# Altium integrated library Resistors.IntLib: 4954 symbols (part 31 of 32)
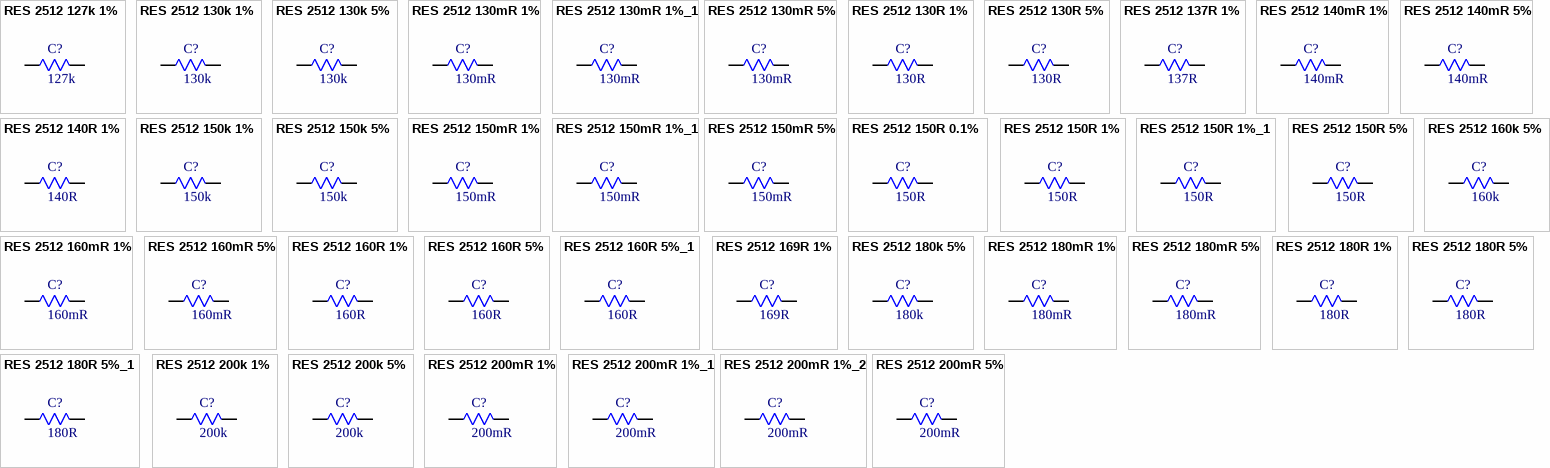
[diagram p153: symbols RES 2512 127k 1% to RES 2512 200mR 5%]

## RES 2512 160R 5%
designator C?, comment 160R
160R 1W 200V Thick Film Resistor 100ppm/â„ƒ 5% 2512 Chip Resistor - Surface Mount RoHS; Manufacturer: FOJAN; Manufacturer Part Number: FRC2512J161 TS; Supplier: LCSC; Supplier Part Number: C2907573; Resistance: 160R; Tolerance: 5%; Voltage Rating: 200V; Power: 1W
footprint RES SMD 2512
pins: 1, 2

## RES 2512 160R 5%_1
designator C?, comment 160R
2W 160R 200V Thick Film Resistor 200ppm/â„ƒ 5% 2512 Chip Resistor - Surface Mount RoHS; Manufacturer: FOJAN; Manufacturer Part Number: FRP2512J161 TS; Supplier: LCSC; Supplier Part Number: C3013387; Resistance: 160R; Tolerance: 5%; Voltage Rating: 200V; Power: 2W
footprint RES SMD 2512
pins: 1, 2

## RES 2512 169R 1%
designator C?, comment 169R
169R 1% 1W 2512 Thick Film Resistor; Manufacturer: FOJAN; Manufacturer Part Number: FRC2512F1690TS; Voltage Rating: 200V; Supplier: LCSC; Supplier Part Number: C42372196; Resistance: 169R; Tolerance: 1%; Power: 1W
footprint RES SMD 2512
pins: 1, 2

## RES 2512 180k 5%
designator C?, comment 180k
180kR 5% 1W 2512 Thick Film Resistor; Manufacturer: FOJAN; Manufacturer Part Number: FRC2512J184 TS; Voltage Rating: 200V; Supplier: LCSC; Supplier Part Number: C2960914; Resistance: 180k; Tolerance: 5%; Power: 1W
footprint RES SMD 2512
pins: 1, 2

## RES 2512 180mR 1%
designator C?, comment 180mR
180mR 1% 1W 2512 Thick Film Resistor; Manufacturer: FOJAN; Manufacturer Part Number: FRL2512FR180TS; Voltage Rating: 500V; Supplier: LCSC; Supplier Part Number: C2934365; Resistance: 180mR; Tolerance: 1%; Power: 1W
footprint RES SMD 2512
pins: 1, 2

## RES 2512 180mR 5%
designator C?, comment 180mR
180mR 5% 1W 2512 Thick Film Resistor; Manufacturer: FOJAN; Manufacturer Part Number: FRL2512JR180TS; Voltage Rating: 500V; Supplier: LCSC; Supplier Part Number: C2934372; Resistance: 180mR; Tolerance: 5%; Power: 1W
footprint RES SMD 2512
pins: 1, 2

## RES 2512 180R 1%
designator C?, comment 180R
1W 180R 200V Thick Film Resistor 100ppm/â„ƒ 1% 2512 Chip Resistor - Surface Mount RoHS; Manufacturer: FOJAN; Manufacturer Part Number: FRC2512F1800TS; Supplier: LCSC; Supplier Part Number: C5121563; Resistance: 180R; Tolerance: 1%; Voltage Rating: 200V; Power: 1W
footprint RES SMD 2512
pins: 1, 2

## RES 2512 180R 5%
designator C?, comment 180R
1W 180R 200V Thick Film Resistor 100ppm/â„ƒ 5% 2512 Chip Resistor - Surface Mount RoHS; Manufacturer: FOJAN; Manufacturer Part Number: FRC2512J181 TS; Supplier: LCSC; Supplier Part Number: C2934094; Resistance: 180R; Tolerance: 5%; Voltage Rating: 200V; Power: 1W
footprint RES SMD 2512
pins: 1, 2

## RES 2512 180R 5%_1
designator C?, comment 180R
2W 180R 200V Thick Film Resistor 200ppm/â„ƒ 5% 2512 Chip Resistor - Surface Mount RoHS; Manufacturer: FOJAN; Manufacturer Part Number: FRP2512J181 TS; Supplier: LCSC; Supplier Part Number: C5204055; Resistance: 180R; Tolerance: 5%; Voltage Rating: 200V; Power: 2W
footprint RES SMD 2512
pins: 1, 2

## RES 2512 200k 1%
designator C?, comment 200k
200kR 1% 1W 2512 Thick Film Resistor; Manufacturer: FOJAN; Manufacturer Part Number: FRC2512F2003TS; Voltage Rating: 200V; Supplier: LCSC; Supplier Part Number: C2934059; Resistance: 200k; Tolerance: 1%; Power: 1W
footprint RES SMD 2512
pins: 1, 2

## RES 2512 200k 5%
designator C?, comment 200k
200kR 5% 1W 2512 Thick Film Resistor; Manufacturer: FOJAN; Manufacturer Part Number: FRC2512J204 TS; Voltage Rating: 200V; Supplier: LCSC; Supplier Part Number: C2934097; Resistance: 200k; Tolerance: 5%; Power: 1W
footprint RES SMD 2512
pins: 1, 2

## RES 2512 200mR 1%
designator C?, comment 200mR
200mR 2W Thick Film Resistor 600ppm/â„ƒ 1% 2512 Chip Resistor - Surface Mount RoHS; Manufacturer: FOJAN; Manufacturer Part Number: FPL2512FR200TS; Supplier: LCSC; Supplier Part Number: C18164315; Resistance: 200mR; Tolerance: 1%; Power: 2W
footprint RES SMD 2512
pins: 1, 2

## RES 2512 200mR 1%_1
designator C?, comment 200mR
200mR 1% 1W 2512 Thick Film Resistor; Manufacturer: FOJAN; Manufacturer Part Number: FRL2512FR200TS; Voltage Rating: 500V; Supplier: LCSC; Supplier Part Number: C2934366; Resistance: 200mR; Tolerance: 1%; Power: 1W
footprint RES SMD 2512
pins: 1, 2

## RES 2512 200mR 1%_2
designator C?, comment 200mR
200mR 1% 3W; Manufacturer: FOJAN; Manufacturer Part Number: FPM253WFR200TN; Supplier: LCSC; Supplier Part Number: C46635900; Resistance: 200mR; Tolerance: 1%; Power: 3W
footprint RES SMD 2512
pins: 1, 2

## RES 2512 200mR 5%
designator C?, comment 200mR
200mR 5% 1W 2512 Thick Film Resistor; Manufacturer: FOJAN; Manufacturer Part Number: FRL2512JR200TS; Voltage Rating: 500V; Supplier: LCSC; Supplier Part Number: C2934373; Resistance: 200mR; Tolerance: 5%; Power: 1W
footprint RES SMD 2512
pins: 1, 2

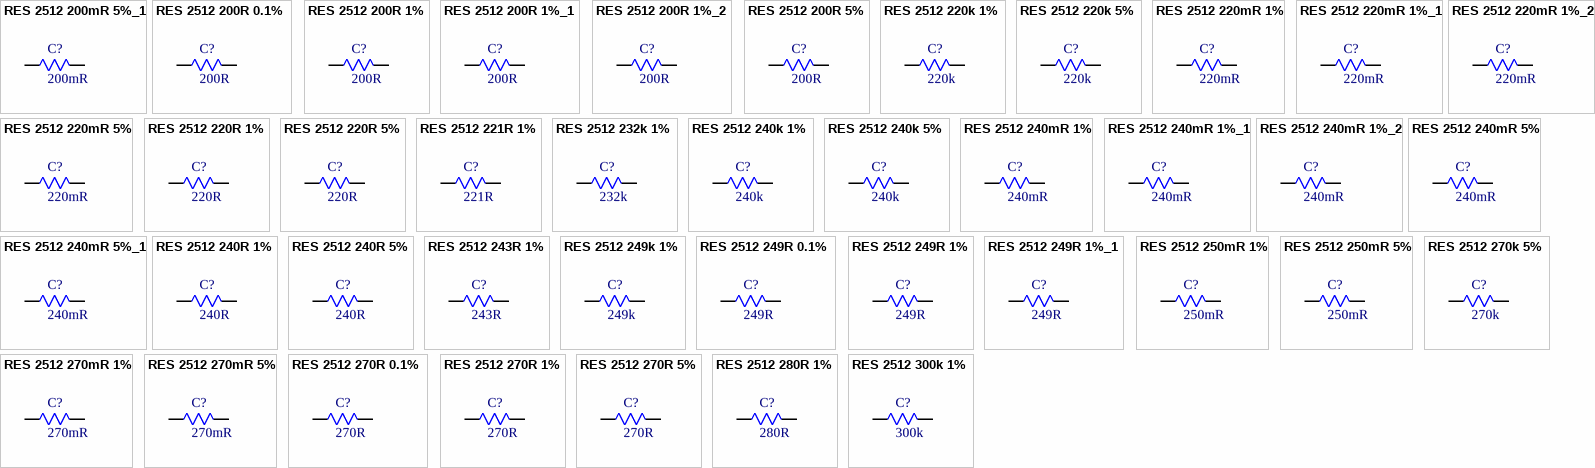
[diagram p120: symbols RES 2512 200mR 5%_1 to RES 2512 300k 1%]

## RES 2512 200mR 5%_1
designator C?, comment 200mR
200mR 2W Thick Film Resistor 5% 600ppm/â„ƒ 2512 Chip Resistor - Surface Mount RoHS; Manufacturer: FOJAN; Manufacturer Part Number: FPL2512JR200TS; Supplier: LCSC; Supplier Part Number: C51048339; Resistance: 200mR; Tolerance: 5%; Power: 2W
footprint RES SMD 2512
pins: 1, 2

## RES 2512 200R 0.1%
designator C?, comment 200R
1W 200R 200V Thick Film Resistor 100ppm/â„ƒ 0.1% 2512 Chip Resistor - Surface Mount RoHS; Manufacturer: FOJAN; Manufacturer Part Number: FRH2512B2000TS; Supplier: LCSC; Supplier Part Number: C49196683; Resistance: 200R; Tolerance: 0.1%; Voltage Rating: 200V; Power: 1W
footprint RES SMD 2512
pins: 1, 2

## RES 2512 200R 1%
designator C?, comment 200R
1W 200R 200V Thick Film Resistor 100ppm/â„ƒ 1% 2512 Chip Resistor - Surface Mount RoHS; Manufacturer: FOJAN; Manufacturer Part Number: FRC2512F2000TS; Supplier: LCSC; Supplier Part Number: C2934056; Resistance: 200R; Tolerance: 1%; Voltage Rating: 200V; Power: 1W
footprint RES SMD 2512
pins: 1, 2

## RES 2512 200R 1%_1
designator C?, comment 200R
2W 200R 200V Thick Film Resistor 100ppm/â„ƒ 1% 2512 Chip Resistor - Surface Mount RoHS; Manufacturer: FOJAN; Manufacturer Part Number: FPS2512F2000TS; Supplier: LCSC; Supplier Part Number: C49010124; Resistance: 200R; Tolerance: 1%; Voltage Rating: 200V; Power: 2W
footprint RES SMD 2512
pins: 1, 2

## RES 2512 200R 1%_2
designator C?, comment 200R
2W 200R Thick Film Resistor 200ppm/â„ƒ 1% 2512 Chip Resistor - Surface Mount RoHS; Manufacturer: FOJAN; Manufacturer Part Number: FRP2512F2000TS; Supplier: LCSC; Supplier Part Number: C7468341; Resistance: 200R; Tolerance: 1%; Power: 2W
footprint RES SMD 2512
pins: 1, 2

## RES 2512 200R 5%
designator C?, comment 200R
1W 200R 200V Thick Film Resistor 100ppm/â„ƒ 5% 2512 Chip Resistor - Surface Mount RoHS; Manufacturer: FOJAN; Manufacturer Part Number: FRC2512J201 TS; Supplier: LCSC; Supplier Part Number: C2907575; Resistance: 200R; Tolerance: 5%; Voltage Rating: 200V; Power: 1W
footprint RES SMD 2512
pins: 1, 2

## RES 2512 220k 1%
designator C?, comment 220k
220kR 1% 1W 2512 Thick Film Resistor; Manufacturer: FOJAN; Manufacturer Part Number: FRC2512F2203TS; Voltage Rating: 200V; Supplier: LCSC; Supplier Part Number: C2934061; Resistance: 220k; Tolerance: 1%; Power: 1W
footprint RES SMD 2512
pins: 1, 2

## RES 2512 220k 5%
designator C?, comment 220k
220kR 5% 1W 2512 Thick Film Resistor; Manufacturer: FOJAN; Manufacturer Part Number: FRC2512J224 TS; Voltage Rating: 200V; Supplier: LCSC; Supplier Part Number: C2974114; Resistance: 220k; Tolerance: 5%; Power: 1W
footprint RES SMD 2512
pins: 1, 2

## RES 2512 220mR 1%
designator C?, comment 220mR
220mR 1% 1W 2512 Thick Film Resistor; Manufacturer: FOJAN; Manufacturer Part Number: FRL2512FR220TS; Voltage Rating: 500V; Supplier: LCSC; Supplier Part Number: C2960770; Resistance: 220mR; Tolerance: 1%; Power: 1W
footprint RES SMD 2512
pins: 1, 2

## RES 2512 220mR 1%_1
designator C?, comment 220mR
220mR 2W Thick Film Resistor 300ppm/â„ƒ 1% 2512 Chip Resistor - Surface Mount RoHS; Manufacturer: FOJAN; Manufacturer Part Number: FPL2512FR220TS; Supplier: LCSC; Supplier Part Number: C7467846; Resistance: 220mR; Tolerance: 1%; Power: 2W
footprint RES SMD 2512
pins: 1, 2

## RES 2512 220mR 1%_2
designator C?, comment 220mR
220mR 1% 2W; Manufacturer: FOJAN; Manufacturer Part Number: FRM252WFR220TK; Supplier: LCSC; Supplier Part Number: C46635908; Resistance: 220mR; Tolerance: 1%; Power: 2W
footprint RES SMD 2512
pins: 1, 2

## RES 2512 220mR 5%
designator C?, comment 220mR
220mR 5% 1W 2512 Thick Film Resistor; Manufacturer: FOJAN; Manufacturer Part Number: FRL2512JR220TS; Voltage Rating: 500V; Supplier: LCSC; Supplier Part Number: C2934374; Resistance: 220mR; Tolerance: 5%; Power: 1W
footprint RES SMD 2512
pins: 1, 2

## RES 2512 220R 1%
designator C?, comment 220R
1W 220R 200V Thick Film Resistor 100ppm/â„ƒ 1% 2512 Chip Resistor - Surface Mount RoHS; Manufacturer: FOJAN; Manufacturer Part Number: FRC2512F2200TS; Supplier: LCSC; Supplier Part Number: C2934060; Resistance: 220R; Tolerance: 1%; Voltage Rating: 200V; Power: 1W
footprint RES SMD 2512
pins: 1, 2

## RES 2512 220R 5%
designator C?, comment 220R
1W 220R 200V Thick Film Resistor 100ppm/â„ƒ 5% 2512 Chip Resistor - Surface Mount RoHS; Manufacturer: FOJAN; Manufacturer Part Number: FRC2512J221TS; Supplier: LCSC; Supplier Part Number: C2930459; Resistance: 220R; Tolerance: 5%; Voltage Rating: 200V; Power: 1W
footprint RES SMD 2512
pins: 1, 2

## RES 2512 221R 1%
designator C?, comment 221R
1W 221R 200V Thick Film Resistor 1% 2512 Chip Resistor - Surface Mount RoHS; Manufacturer: FOJAN; Manufacturer Part Number: FRC2512F2210TS; Supplier: LCSC; Supplier Part Number: C51048216; Resistance: 221R; Tolerance: 1%; Voltage Rating: 200V; Power: 1W
footprint RES SMD 2512
pins: 1, 2

## RES 2512 232k 1%
designator C?, comment 232k
1W 232kR 200V Thick Film Resistor 1% 2512 Chip Resistor - Surface Mount RoHS; Manufacturer: FOJAN; Manufacturer Part Number: FRC2512F2323TS; Supplier: LCSC; Supplier Part Number: C51048337; Resistance: 232k; Tolerance: 1%; Voltage Rating: 200V; Power: 1W
footprint RES SMD 2512
pins: 1, 2

## RES 2512 240k 1%
designator C?, comment 240k
240kR 1% 1W 2512 Thick Film Resistor; Manufacturer: FOJAN; Manufacturer Part Number: FRC2512F2403TS; Voltage Rating: 200V; Supplier: LCSC; Supplier Part Number: C5121565; Resistance: 240k; Tolerance: 1%; Power: 1W
footprint RES SMD 2512
pins: 1, 2

## RES 2512 240k 5%
designator C?, comment 240k
240kR 5% 1W 2512 Thick Film Resistor; Manufacturer: FOJAN; Manufacturer Part Number: FRC2512J244 TS; Voltage Rating: 200V; Supplier: LCSC; Supplier Part Number: C2934104; Resistance: 240k; Tolerance: 5%; Power: 1W
footprint RES SMD 2512
pins: 1, 2

## RES 2512 240mR 1%
designator C?, comment 240mR
240mR 1% 2W 2512 Thick Film Resistor; Manufacturer: FOJAN; Manufacturer Part Number: FPL2512FR240TS; Supplier: LCSC; Supplier Part Number: C7468699; Resistance: 240mR; Tolerance: 1%; Power: 2W
footprint RES SMD 2512
pins: 1, 2

## RES 2512 240mR 1%_1
designator C?, comment 240mR
240mR 1% 1W 2512 Thick Film Resistor; Manufacturer: FOJAN; Manufacturer Part Number: FRL2512FR240TS; Voltage Rating: 500V; Supplier: LCSC; Supplier Part Number: C2934367; Resistance: 240mR; Tolerance: 1%; Power: 1W
footprint RES SMD 2512
pins: 1, 2

## RES 2512 240mR 1%_2
designator C?, comment 240mR
240mR 1% 2W 2512 Thick Film Resistor; Manufacturer: FOJAN; Manufacturer Part Number: FRP2512FR240TS; Voltage Rating: 200V; Supplier: LCSC; Supplier Part Number: C3013384; Resistance: 240mR; Tolerance: 1%; Power: 2W
footprint RES SMD 2512
pins: 1, 2

## RES 2512 240mR 5%
designator C?, comment 240mR
240mR 5% 1W 2512 Thick Film Resistor; Manufacturer: FOJAN; Manufacturer Part Number: FRL2512JR240TS; Voltage Rating: 500V; Supplier: LCSC; Supplier Part Number: C2960776; Resistance: 240mR; Tolerance: 5%; Power: 1W
footprint RES SMD 2512
pins: 1, 2

## RES 2512 240mR 5%_1
designator C?, comment 240mR
2W 240mR Current Sense Resistor 5% 50ppm/â„ƒ 2512 Chip Resistor - Surface Mount RoHS; Manufacturer: FOJAN; Manufacturer Part Number: FRM252WJR240TK; Supplier: LCSC; Supplier Part Number: C7467235; Resistance: 240mR; Tolerance: 5%; Power: 2W
footprint RES SMD 2512
pins: 1, 2

## RES 2512 240R 1%
designator C?, comment 240R
1W 240R 200V Thick Film Resistor 100ppm/â„ƒ 1% 2512 Chip Resistor - Surface Mount RoHS; Manufacturer: FOJAN; Manufacturer Part Number: FRC2512F2400TS; Supplier: LCSC; Supplier Part Number: C3013320; Resistance: 240R; Tolerance: 1%; Voltage Rating: 200V; Power: 1W
footprint RES SMD 2512
pins: 1, 2

## RES 2512 240R 5%
designator C?, comment 240R
240R 1W 200V Thick Film Resistor 100ppm/â„ƒ 5% 2512 Chip Resistor - Surface Mount RoHS; Manufacturer: FOJAN; Manufacturer Part Number: FRC2512J241 TS; Supplier: LCSC; Supplier Part Number: C2934101; Resistance: 240R; Tolerance: 5%; Voltage Rating: 200V; Power: 1W
footprint RES SMD 2512
pins: 1, 2

## RES 2512 243R 1%
designator C?, comment 243R
1W 243R 200V Thick Film Resistor 100ppm/â„ƒ 1% 2512 Chip Resistor - Surface Mount RoHS; Manufacturer: FOJAN; Manufacturer Part Number: FRC2512F2430TS; Supplier: LCSC; Supplier Part Number: C3000770; Resistance: 243R; Tolerance: 1%; Voltage Rating: 200V; Power: 1W
footprint RES SMD 2512
pins: 1, 2

## RES 2512 249k 1%
designator C?, comment 249k
249kR 1W 200V Thick Film Resistor 100ppm/â„ƒ 1% 2512 Chip Resistor - Surface Mount RoHS; Manufacturer: FOJAN; Manufacturer Part Number: FRC2512F2493TS; Supplier: LCSC; Supplier Part Number: C48533772; Resistance: 249k; Tolerance: 1%; Voltage Rating: 200V; Power: 1W
footprint RES SMD 2512
pins: 1, 2

## RES 2512 249R 0.1%
designator C?, comment 249R
1W 249R 200V Thick Film Resistor 100ppm/â„ƒ 0.1% 2512 Chip Resistor - Surface Mount RoHS; Manufacturer: FOJAN; Manufacturer Part Number: FRH2512B2490TS; Supplier: LCSC; Supplier Part Number: C49196919; Resistance: 249R; Tolerance: 0.1%; Voltage Rating: 200V; Power: 1W
footprint RES SMD 2512
pins: 1, 2

## RES 2512 249R 1%
designator C?, comment 249R
1W 249R 200V Thick Film Resistor 100ppm/â„ƒ 1% 2512 Chip Resistor - Surface Mount RoHS; Manufacturer: FOJAN; Manufacturer Part Number: FRC2512F2490TS; Supplier: LCSC; Supplier Part Number: C5126067; Resistance: 249R; Tolerance: 1%; Voltage Rating: 200V; Power: 1W
footprint RES SMD 2512
pins: 1, 2

## RES 2512 249R 1%_1
designator C?, comment 249R
249R 2W Thick Film Resistor 200ppm/â„ƒ 1% 2512 Chip Resistor - Surface Mount RoHS; Manufacturer: FOJAN; Manufacturer Part Number: FRP2512F2490TS; Supplier: LCSC; Supplier Part Number: C7468330; Resistance: 249R; Tolerance: 1%; Power: 2W
footprint RES SMD 2512
pins: 1, 2

## RES 2512 250mR 1%
designator C?, comment 250mR
250mR 1% 1W 2512 Thick Film Resistor; Manufacturer: FOJAN; Manufacturer Part Number: FRL2512FR250TS; Voltage Rating: 500V; Supplier: LCSC; Supplier Part Number: C3000774; Resistance: 250mR; Tolerance: 1%; Power: 1W
footprint RES SMD 2512
pins: 1, 2

## RES 2512 250mR 5%
designator C?, comment 250mR
250mR 5% 1W 2512 Thick Film Resistor; Manufacturer: FOJAN; Manufacturer Part Number: FRL2512JR250TS; Voltage Rating: 500V; Supplier: LCSC; Supplier Part Number: C2934375; Resistance: 250mR; Tolerance: 5%; Power: 1W
footprint RES SMD 2512
pins: 1, 2

## RES 2512 270k 5%
designator C?, comment 270k
270kR 5% 1W 2512 Thick Film Resistor; Manufacturer: FOJAN; Manufacturer Part Number: FRC2512J274 TS; Voltage Rating: 200V; Supplier: LCSC; Supplier Part Number: C2960831; Resistance: 270k; Tolerance: 5%; Power: 1W
footprint RES SMD 2512
pins: 1, 2

## RES 2512 270mR 1%
designator C?, comment 270mR
270mR 1% 1W 2512 Thick Film Resistor; Manufacturer: FOJAN; Manufacturer Part Number: FRL2512FR270TS; Voltage Rating: 500V; Supplier: LCSC; Supplier Part Number: C2960711; Resistance: 270mR; Tolerance: 1%; Power: 1W
footprint RES SMD 2512
pins: 1, 2

## RES 2512 270mR 5%
designator C?, comment 270mR
270mR 5% 1W 2512 Thick Film Resistor; Manufacturer: FOJAN; Manufacturer Part Number: FRL2512JR270TS; Voltage Rating: 500V; Supplier: LCSC; Supplier Part Number: C2934376; Resistance: 270mR; Tolerance: 5%; Power: 1W
footprint RES SMD 2512
pins: 1, 2

## RES 2512 270R 0.1%
designator C?, comment 270R
1W 270R 200V Thick Film Resistor 100ppm/â„ƒ 0.1% 2512 Chip Resistor - Surface Mount RoHS; Manufacturer: FOJAN; Manufacturer Part Number: FRH2512B2700TS; Supplier: LCSC; Supplier Part Number: C49196928; Resistance: 270R; Tolerance: 0.1%; Voltage Rating: 200V; Power: 1W
footprint RES SMD 2512
pins: 1, 2

## RES 2512 270R 1%
designator C?, comment 270R
1W 270R 200V Thick Film Resistor 100ppm/â„ƒ 1% 2512 Chip Resistor - Surface Mount RoHS; Manufacturer: FOJAN; Manufacturer Part Number: FRC2512F2700TS; Supplier: LCSC; Supplier Part Number: C2974110; Resistance: 270R; Tolerance: 1%; Voltage Rating: 200V; Power: 1W
footprint RES SMD 2512
pins: 1, 2

## RES 2512 270R 5%
designator C?, comment 270R
1W 270R 200V Thick Film Resistor 100ppm/â„ƒ 5% 2512 Chip Resistor - Surface Mount RoHS; Manufacturer: FOJAN; Manufacturer Part Number: FRC2512J271TS; Supplier: LCSC; Supplier Part Number: C3000712; Resistance: 270R; Tolerance: 5%; Voltage Rating: 200V; Power: 1W
footprint RES SMD 2512
pins: 1, 2

## RES 2512 280R 1%
designator C?, comment 280R
280R 1W 200V Thick Film Resistor 100ppm/â„ƒ 1% 2512 Chip Resistor - Surface Mount RoHS; Manufacturer: FOJAN; Manufacturer Part Number: FRC2512F2800TS; Supplier: LCSC; Supplier Part Number: C48533766; Resistance: 280R; Tolerance: 1%; Voltage Rating: 200V; Power: 1W
footprint RES SMD 2512
pins: 1, 2

## RES 2512 300k 1%
designator C?, comment 300k
300kR 1% 1W 2512 Thick Film Resistor; Manufacturer: FOJAN; Manufacturer Part Number: FRC2512F3003TS; Voltage Rating: 200V; Supplier: LCSC; Supplier Part Number: C2960835; Resistance: 300k; Tolerance: 1%; Power: 1W
footprint RES SMD 2512
pins: 1, 2

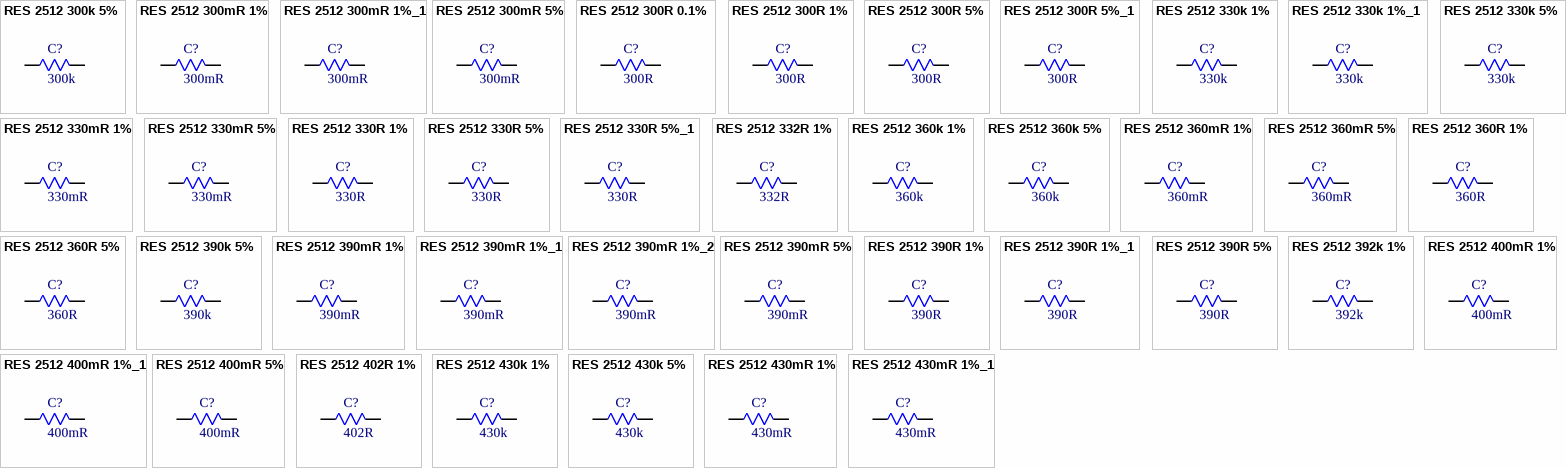
[diagram p121: symbols RES 2512 300k 5% to RES 2512 430mR 1%_1]

## RES 2512 300k 5%
designator C?, comment 300k
300kR 5% 1W 2512 Thick Film Resistor; Manufacturer: FOJAN; Manufacturer Part Number: FRC2512J304 TS; Voltage Rating: 200V; Supplier: LCSC; Supplier Part Number: C3013331; Resistance: 300k; Tolerance: 5%; Power: 1W
footprint RES SMD 2512
pins: 1, 2

## RES 2512 300mR 1%
designator C?, comment 300mR
300mR 1% 2W 2512 Thick Film Resistor; Manufacturer: FOJAN; Manufacturer Part Number: FPL2512FR300TS; Supplier: LCSC; Supplier Part Number: C46635950; Resistance: 300mR; Tolerance: 1%; Power: 2W
footprint RES SMD 2512
pins: 1, 2

## RES 2512 300mR 1%_1
designator C?, comment 300mR
1W 300mR Thick Film Resistor 300ppm/â„ƒ 1% 2512 Chip Resistor - Surface Mount RoHS; Manufacturer: FOJAN; Manufacturer Part Number: FRL2512FR300TS; Supplier: LCSC; Supplier Part Number: C7467410; Resistance: 300mR; Tolerance: 1%; Power: 1W
footprint RES SMD 2512
pins: 1, 2

## RES 2512 300mR 5%
designator C?, comment 300mR
300mR 5% 1W 2512 Thick Film Resistor; Manufacturer: FOJAN; Manufacturer Part Number: FRL2512JR300TS; Voltage Rating: 500V; Supplier: LCSC; Supplier Part Number: C2934377; Resistance: 300mR; Tolerance: 5%; Power: 1W
footprint RES SMD 2512
pins: 1, 2

## RES 2512 300R 0.1%
designator C?, comment 300R
1W 300R 200V Thick Film Resistor 100ppm/â„ƒ 0.1% 2512 Chip Resistor - Surface Mount RoHS; Manufacturer: FOJAN; Manufacturer Part Number: FRH2512B3000TS; Supplier: LCSC; Supplier Part Number: C49196929; Resistance: 300R; Tolerance: 0.1%; Voltage Rating: 200V; Power: 1W
footprint RES SMD 2512
pins: 1, 2

## RES 2512 300R 1%
designator C?, comment 300R
300R 1W 200V Thick Film Resistor 100ppm/â„ƒ 1% 2512 Chip Resistor - Surface Mount RoHS; Manufacturer: FOJAN; Manufacturer Part Number: FRC2512F3000TS; Supplier: LCSC; Supplier Part Number: C2934067; Resistance: 300R; Tolerance: 1%; Voltage Rating: 200V; Power: 1W
footprint RES SMD 2512
pins: 1, 2

## RES 2512 300R 5%
designator C?, comment 300R
300R 2W Thick Film Resistor 200ppm/â„ƒ 5% 2512 Chip Resistor - Surface Mount RoHS; Manufacturer: FOJAN; Manufacturer Part Number: FRP2512J301 TS; Supplier: LCSC; Supplier Part Number: C7468124; Resistance: 300R; Tolerance: 5%; Power: 2W
footprint RES SMD 2512
pins: 1, 2

## RES 2512 300R 5%_1
designator C?, comment 300R
300R 1W 200V Thick Film Resistor 100ppm/â„ƒ 5% 2512 Chip Resistor - Surface Mount RoHS; Manufacturer: FOJAN; Manufacturer Part Number: FRC2512J301 TS; Supplier: LCSC; Supplier Part Number: C2934108; Resistance: 300R; Tolerance: 5%; Voltage Rating: 200V; Power: 1W
footprint RES SMD 2512
pins: 1, 2

## RES 2512 330k 1%
designator C?, comment 330k
1W 330kR 500V Thick Film Resistor 1% 200ppm/â„ƒ 2512 Chip Resistor - Surface Mount RoHS; Manufacturer: FOJAN; Manufacturer Part Number: FRV2512F3303TS; Supplier: LCSC; Supplier Part Number: C48533762; Resistance: 330k; Tolerance: 1%; Voltage Rating: 500V; Power: 1W
footprint RES SMD 2512
pins: 1, 2

## RES 2512 330k 1%_1
designator C?, comment 330k
330kR 1% 1W 2512 Thick Film Resistor; Manufacturer: FOJAN; Manufacturer Part Number: FRC2512F3303TS; Voltage Rating: 200V; Supplier: LCSC; Supplier Part Number: C5713378; Resistance: 330k; Tolerance: 1%; Power: 1W
footprint RES SMD 2512
pins: 1, 2

## RES 2512 330k 5%
designator C?, comment 330k
330kR 5% 1W 2512 Thick Film Resistor; Manufacturer: FOJAN; Manufacturer Part Number: FRC2512J334 TS; Voltage Rating: 200V; Supplier: LCSC; Supplier Part Number: C2934111; Resistance: 330k; Tolerance: 5%; Power: 1W
footprint RES SMD 2512
pins: 1, 2

## RES 2512 330mR 1%
designator C?, comment 330mR
330mR 1% 1W 2512 Thick Film Resistor; Manufacturer: FOJAN; Manufacturer Part Number: FRL2512FR330TS; Voltage Rating: 500V; Supplier: LCSC; Supplier Part Number: C2960712; Resistance: 330mR; Tolerance: 1%; Power: 1W
footprint RES SMD 2512
pins: 1, 2

## RES 2512 330mR 5%
designator C?, comment 330mR
330mR 5% 1W 2512 Thick Film Resistor; Manufacturer: FOJAN; Manufacturer Part Number: FRL2512JR330TS; Voltage Rating: 500V; Supplier: LCSC; Supplier Part Number: C2934378; Resistance: 330mR; Tolerance: 5%; Power: 1W
footprint RES SMD 2512
pins: 1, 2

## RES 2512 330R 1%
designator C?, comment 330R
1W 330R 200V Thick Film Resistor 100ppm/â„ƒ 1% 2512 Chip Resistor - Surface Mount RoHS; Manufacturer: FOJAN; Manufacturer Part Number: FRC2512F3300TS; Supplier: LCSC; Supplier Part Number: C2934068; Resistance: 330R; Tolerance: 1%; Voltage Rating: 200V; Power: 1W
footprint RES SMD 2512
pins: 1, 2

## RES 2512 330R 5%
designator C?, comment 330R
2W 330R 200V Thick Film Resistor 200ppm/â„ƒ 5% 2512 Chip Resistor - Surface Mount RoHS; Manufacturer: FOJAN; Manufacturer Part Number: FRP2512J331TS; Supplier: LCSC; Supplier Part Number: C3000660; Resistance: 330R; Tolerance: 5%; Voltage Rating: 200V; Power: 2W
footprint RES SMD 2512
pins: 1, 2

## RES 2512 330R 5%_1
designator C?, comment 330R
1W 330R 200V Thick Film Resistor 100ppm/â„ƒ 5% 2512 Chip Resistor - Surface Mount RoHS; Manufacturer: FOJAN; Manufacturer Part Number: FRC2512J331 TS; Supplier: LCSC; Supplier Part Number: C2960718; Resistance: 330R; Tolerance: 5%; Voltage Rating: 200V; Power: 1W
footprint RES SMD 2512
pins: 1, 2

## RES 2512 332R 1%
designator C?, comment 332R
1W 332R 200V Thick Film Resistor 1% 2512 Chip Resistor - Surface Mount RoHS; Manufacturer: FOJAN; Manufacturer Part Number: FRC2512F3320TS; Supplier: LCSC; Supplier Part Number: C51048312; Resistance: 332R; Tolerance: 1%; Voltage Rating: 200V; Power: 1W
footprint RES SMD 2512
pins: 1, 2

## RES 2512 360k 1%
designator C?, comment 360k
1W 360kR 200V Thick Film Resistor 1% 2512 Chip Resistor - Surface Mount RoHS; Manufacturer: FOJAN; Manufacturer Part Number: FRC2512F3603TS; Supplier: LCSC; Supplier Part Number: C51048311; Resistance: 360k; Tolerance: 1%; Voltage Rating: 200V; Power: 1W
footprint RES SMD 2512
pins: 1, 2

## RES 2512 360k 5%
designator C?, comment 360k
360kR 5% 1W 2512 Thick Film Resistor; Manufacturer: FOJAN; Manufacturer Part Number: FRC2512J364 TS; Voltage Rating: 200V; Supplier: LCSC; Supplier Part Number: C5713381; Resistance: 360k; Tolerance: 5%; Power: 1W
footprint RES SMD 2512
pins: 1, 2

## RES 2512 360mR 1%
designator C?, comment 360mR
1W 360mR Thick Film Resistor 300ppm/â„ƒ 1% 2512 Chip Resistor - Surface Mount RoHS; Manufacturer: FOJAN; Manufacturer Part Number: FRL2512FR360TS; Supplier: LCSC; Supplier Part Number: C7467804; Resistance: 360mR; Tolerance: 1%; Power: 1W
footprint RES SMD 2512
pins: 1, 2

## RES 2512 360mR 5%
designator C?, comment 360mR
360mR 5% 1W 2512 Thick Film Resistor; Manufacturer: FOJAN; Manufacturer Part Number: FRL2512JR360TS; Voltage Rating: 500V; Supplier: LCSC; Supplier Part Number: C2934379; Resistance: 360mR; Tolerance: 5%; Power: 1W
footprint RES SMD 2512
pins: 1, 2

## RES 2512 360R 1%
designator C?, comment 360R
1W 360R 200V Thick Film Resistor 1% 2512 Chip Resistor - Surface Mount RoHS; Manufacturer: FOJAN; Manufacturer Part Number: FRC2512F3600TS; Supplier: LCSC; Supplier Part Number: C51048357; Resistance: 360R; Tolerance: 1%; Voltage Rating: 200V; Power: 1W
footprint RES SMD 2512
pins: 1, 2

## RES 2512 360R 5%
designator C?, comment 360R
1W 360R 200V Thick Film Resistor 100ppm/â„ƒ 5% 2512 Chip Resistor - Surface Mount RoHS; Manufacturer: FOJAN; Manufacturer Part Number: FRC2512J361 TS; Supplier: LCSC; Supplier Part Number: C2960920; Resistance: 360R; Tolerance: 5%; Voltage Rating: 200V; Power: 1W
footprint RES SMD 2512
pins: 1, 2

## RES 2512 390k 5%
designator C?, comment 390k
390kR 5% 1W 2512 Thick Film Resistor; Manufacturer: FOJAN; Manufacturer Part Number: FRC2512J394 TS; Voltage Rating: 200V; Supplier: LCSC; Supplier Part Number: C5357170; Resistance: 390k; Tolerance: 5%; Power: 1W
footprint RES SMD 2512
pins: 1, 2

## RES 2512 390mR 1%
designator C?, comment 390mR
390mR 1% 2W 2512 Thick Film Resistor; Manufacturer: FOJAN; Manufacturer Part Number: FPL2512FR390TS; Supplier: LCSC; Supplier Part Number: C42372086; Resistance: 390mR; Tolerance: 1%; Power: 2W
footprint RES SMD 2512
pins: 1, 2

## RES 2512 390mR 1%_1
designator C?, comment 390mR
390mR 1% 1W 2512 Thick Film Resistor; Manufacturer: FOJAN; Manufacturer Part Number: FRL2512FR390TS; Voltage Rating: 500V; Supplier: LCSC; Supplier Part Number: C2960754; Resistance: 390mR; Tolerance: 1%; Power: 1W
footprint RES SMD 2512
pins: 1, 2

## RES 2512 390mR 1%_2
designator C?, comment 390mR
390mR 1% 3W; Manufacturer: FOJAN; Manufacturer Part Number: FPM253WFR390TN; Supplier: LCSC; Supplier Part Number: C46635913; Resistance: 390mR; Tolerance: 1%; Power: 3W
footprint RES SMD 2512
pins: 1, 2

## RES 2512 390mR 5%
designator C?, comment 390mR
390mR 5% 1W 2512 Thick Film Resistor; Manufacturer: FOJAN; Manufacturer Part Number: FRL2512JR390TS; Voltage Rating: 500V; Supplier: LCSC; Supplier Part Number: C2934380; Resistance: 390mR; Tolerance: 5%; Power: 1W
footprint RES SMD 2512
pins: 1, 2

## RES 2512 390R 1%
designator C?, comment 390R
2W 390R 200V Thick Film Resistor 200ppm/â„ƒ 1% 2512 Chip Resistor - Surface Mount RoHS; Manufacturer: FOJAN; Manufacturer Part Number: FRP2512F3900TS; Supplier: LCSC; Supplier Part Number: C3013381; Resistance: 390R; Tolerance: 1%; Voltage Rating: 200V; Power: 2W
footprint RES SMD 2512
pins: 1, 2

## RES 2512 390R 1%_1
designator C?, comment 390R
1W 390R 200V Thick Film Resistor 100ppm/â„ƒ 1% 2512 Chip Resistor - Surface Mount RoHS; Manufacturer: FOJAN; Manufacturer Part Number: FRC2512F3900TS; Supplier: LCSC; Supplier Part Number: C3013323; Resistance: 390R; Tolerance: 1%; Voltage Rating: 200V; Power: 1W
footprint RES SMD 2512
pins: 1, 2

## RES 2512 390R 5%
designator C?, comment 390R
1W 390R 200V Thick Film Resistor 100ppm/â„ƒ 5% 2512 Chip Resistor - Surface Mount RoHS; Manufacturer: FOJAN; Manufacturer Part Number: FRC2512J391 TS; Supplier: LCSC; Supplier Part Number: C2960690; Resistance: 390R; Tolerance: 5%; Voltage Rating: 200V; Power: 1W
footprint RES SMD 2512
pins: 1, 2

## RES 2512 392k 1%
designator C?, comment 392k
1W 392kR 200V Thick Film Resistor 100ppm/â„ƒ 1% 2512 Chip Resistor - Surface Mount RoHS; Manufacturer: FOJAN; Manufacturer Part Number: FRC2512F3923TS; Supplier: LCSC; Supplier Part Number: C49010133; Resistance: 392k; Tolerance: 1%; Voltage Rating: 200V; Power: 1W
footprint RES SMD 2512
pins: 1, 2

## RES 2512 400mR 1%
designator C?, comment 400mR
400mR 1% 1W 2512 Thick Film Resistor; Manufacturer: FOJAN; Manufacturer Part Number: FRL2512FR400TS; Voltage Rating: 500V; Supplier: LCSC; Supplier Part Number: C5713413; Resistance: 400mR; Tolerance: 1%; Power: 1W
footprint RES SMD 2512
pins: 1, 2

## RES 2512 400mR 1%_1
designator C?, comment 400mR
400mR 1% 3W; Manufacturer: FOJAN; Manufacturer Part Number: FPM253WFR400TN; Supplier: LCSC; Supplier Part Number: C46635909; Resistance: 400mR; Tolerance: 1%; Power: 3W
footprint RES SMD 2512
pins: 1, 2

## RES 2512 400mR 5%
designator C?, comment 400mR
400mR 5% 1W 2512 Thick Film Resistor; Manufacturer: FOJAN; Manufacturer Part Number: FRL2512JR400TS; Voltage Rating: 500V; Supplier: LCSC; Supplier Part Number: C2960851; Resistance: 400mR; Tolerance: 5%; Power: 1W
footprint RES SMD 2512
pins: 1, 2

## RES 2512 402R 1%
designator C?, comment 402R
1W 402R 200V Thick Film Resistor 100ppm/â„ƒ 1% 2512 Chip Resistor - Surface Mount RoHS; Manufacturer: FOJAN; Manufacturer Part Number: FRC2512F4020TS; Supplier: LCSC; Supplier Part Number: C49010131; Resistance: 402R; Tolerance: 1%; Voltage Rating: 200V; Power: 1W
footprint RES SMD 2512
pins: 1, 2

## RES 2512 430k 1%
designator C?, comment 430k
430kR 1% 1W 2512 Thick Film Resistor; Manufacturer: FOJAN; Manufacturer Part Number: FRC2512F4303TS; Voltage Rating: 200V; Supplier: LCSC; Supplier Part Number: C2999531; Resistance: 430k; Tolerance: 1%; Power: 1W
footprint RES SMD 2512
pins: 1, 2

## RES 2512 430k 5%
designator C?, comment 430k
430kR 5% 1W 2512 Thick Film Resistor; Manufacturer: FOJAN; Manufacturer Part Number: FRC2512J434 TS; Voltage Rating: 200V; Supplier: LCSC; Supplier Part Number: C2934118; Resistance: 430k; Tolerance: 5%; Power: 1W
footprint RES SMD 2512
pins: 1, 2

## RES 2512 430mR 1%
designator C?, comment 430mR
430mR 1% 2W 2512 Thick Film Resistor; Manufacturer: FOJAN; Manufacturer Part Number: FPL2512FR430TS; Supplier: LCSC; Supplier Part Number: C7468698; Resistance: 430mR; Tolerance: 1%; Power: 2W
footprint RES SMD 2512
pins: 1, 2

## RES 2512 430mR 1%_1
designator C?, comment 430mR
430mR 1% 1W 2512 Thick Film Resistor; Manufacturer: FOJAN; Manufacturer Part Number: FRL2512FR430TS; Voltage Rating: 500V; Supplier: LCSC; Supplier Part Number: C2960834; Resistance: 430mR; Tolerance: 1%; Power: 1W
footprint RES SMD 2512
pins: 1, 2

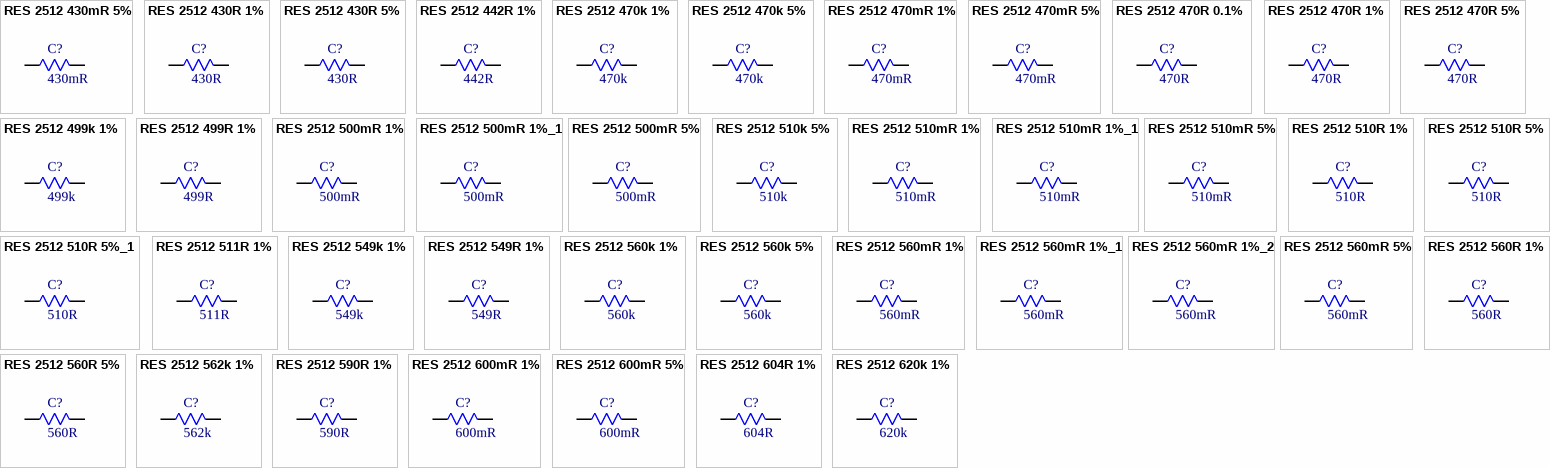
[diagram p122: symbols RES 2512 430mR 5% to RES 2512 620k 1%]

## RES 2512 430mR 5%
designator C?, comment 430mR
430mR 5% 1W 2512 Thick Film Resistor; Manufacturer: FOJAN; Manufacturer Part Number: FRL2512JR430TS; Voltage Rating: 500V; Supplier: LCSC; Supplier Part Number: C3000795; Resistance: 430mR; Tolerance: 5%; Power: 1W
footprint RES SMD 2512
pins: 1, 2

## RES 2512 430R 1%
designator C?, comment 430R
430R 1W 200V Thick Film Resistor 100ppm/â„ƒ 1% 2512 Chip Resistor - Surface Mount RoHS; Manufacturer: FOJAN; Manufacturer Part Number: FRC2512F4300TS; Supplier: LCSC; Supplier Part Number: C2934074; Resistance: 430R; Tolerance: 1%; Voltage Rating: 200V; Power: 1W
footprint RES SMD 2512
pins: 1, 2

## RES 2512 430R 5%
designator C?, comment 430R
430R 1W 200V Thick Film Resistor 100ppm/â„ƒ 5% 2512 Chip Resistor - Surface Mount RoHS; Manufacturer: FOJAN; Manufacturer Part Number: FRC2512J431 TS; Supplier: LCSC; Supplier Part Number: C2934115; Resistance: 430R; Tolerance: 5%; Voltage Rating: 200V; Power: 1W
footprint RES SMD 2512
pins: 1, 2

## RES 2512 442R 1%
designator C?, comment 442R
1W 442R 200V Thick Film Resistor 100ppm/â„ƒ 1% 2512 Chip Resistor - Surface Mount RoHS; Manufacturer: FOJAN; Manufacturer Part Number: FRC2512F4420TS; Supplier: LCSC; Supplier Part Number: C3013324; Resistance: 442R; Tolerance: 1%; Voltage Rating: 200V; Power: 1W
footprint RES SMD 2512
pins: 1, 2

## RES 2512 470k 1%
designator C?, comment 470k
470kR 1% 1W 2512 Thick Film Resistor; Manufacturer: FOJAN; Manufacturer Part Number: FRC2512F4703TS; Voltage Rating: 200V; Supplier: LCSC; Supplier Part Number: C2934077; Resistance: 470k; Tolerance: 1%; Power: 1W
footprint RES SMD 2512
pins: 1, 2

## RES 2512 470k 5%
designator C?, comment 470k
470kR 5% 1W 2512 Thick Film Resistor; Manufacturer: FOJAN; Manufacturer Part Number: FRC2512J474 TS; Voltage Rating: 200V; Supplier: LCSC; Supplier Part Number: C2934119; Resistance: 470k; Tolerance: 5%; Power: 1W
footprint RES SMD 2512
pins: 1, 2

## RES 2512 470mR 1%
designator C?, comment 470mR
470mR 1% 1W 2512 Thick Film Resistor; Manufacturer: FOJAN; Manufacturer Part Number: FRL2512FR470TS; Voltage Rating: 500V; Supplier: LCSC; Supplier Part Number: C2934368; Resistance: 470mR; Tolerance: 1%; Power: 1W
footprint RES SMD 2512
pins: 1, 2

## RES 2512 470mR 5%
designator C?, comment 470mR
470mR 5% 1W 2512 Thick Film Resistor; Manufacturer: FOJAN; Manufacturer Part Number: FRL2512JR470TS; Voltage Rating: 500V; Supplier: LCSC; Supplier Part Number: C2934381; Resistance: 470mR; Tolerance: 5%; Power: 1W
footprint RES SMD 2512
pins: 1, 2

## RES 2512 470R 0.1%
designator C?, comment 470R
1W 470R 200V Thick Film Resistor 100ppm/â„ƒ 0.1% 2512 Chip Resistor - Surface Mount RoHS; Manufacturer: FOJAN; Manufacturer Part Number: FRH2512B4700TS; Supplier: LCSC; Supplier Part Number: C49196931; Resistance: 470R; Tolerance: 0.1%; Voltage Rating: 200V; Power: 1W
footprint RES SMD 2512
pins: 1, 2

## RES 2512 470R 1%
designator C?, comment 470R
1W 470R 200V Thick Film Resistor 100ppm/â„ƒ 1% 2512 Chip Resistor - Surface Mount RoHS; Manufacturer: FOJAN; Manufacturer Part Number: FRC2512F4700TS; Supplier: LCSC; Supplier Part Number: C2934075; Resistance: 470R; Tolerance: 1%; Voltage Rating: 200V; Power: 1W
footprint RES SMD 2512
pins: 1, 2

## RES 2512 470R 5%
designator C?, comment 470R
1W 470R 200V Thick Film Resistor 100ppm/â„ƒ 5% 2512 Chip Resistor - Surface Mount RoHS; Manufacturer: FOJAN; Manufacturer Part Number: FRC2512J471 TS; Supplier: LCSC; Supplier Part Number: C2907585; Resistance: 470R; Tolerance: 5%; Voltage Rating: 200V; Power: 1W
footprint RES SMD 2512
pins: 1, 2

## RES 2512 499k 1%
designator C?, comment 499k
499kR 1% 1W 2512 Thick Film Resistor; Manufacturer: FOJAN; Manufacturer Part Number: FRC2512F4993TS; Voltage Rating: 200V; Supplier: LCSC; Supplier Part Number: C42372198; Resistance: 499k; Tolerance: 1%; Power: 1W
footprint RES SMD 2512
pins: 1, 2

## RES 2512 499R 1%
designator C?, comment 499R
1W 499R 200V Thick Film Resistor 100ppm/â„ƒ 1% 2512 Chip Resistor - Surface Mount RoHS; Manufacturer: FOJAN; Manufacturer Part Number: FRC2512F4990TS; Supplier: LCSC; Supplier Part Number: C5159761; Resistance: 499R; Tolerance: 1%; Voltage Rating: 200V; Power: 1W
footprint RES SMD 2512
pins: 1, 2

## RES 2512 500mR 1%
designator C?, comment 500mR
500mR 1% 1W 2512 Thick Film Resistor; Manufacturer: FOJAN; Manufacturer Part Number: FRL2512FR500TS; Voltage Rating: 500V; Supplier: LCSC; Supplier Part Number: C2934369; Resistance: 500mR; Tolerance: 1%; Power: 1W
footprint RES SMD 2512
pins: 1, 2

## RES 2512 500mR 1%_1
designator C?, comment 500mR
500mR 1% 3W; Manufacturer: FOJAN; Manufacturer Part Number: FPM253WFR500TN; Supplier: LCSC; Supplier Part Number: C46635898; Resistance: 500mR; Tolerance: 1%; Power: 3W
footprint RES SMD 2512
pins: 1, 2

## RES 2512 500mR 5%
designator C?, comment 500mR
500mR 5% 1W 2512 Thick Film Resistor; Manufacturer: FOJAN; Manufacturer Part Number: FRL2512JR500TS; Voltage Rating: 500V; Supplier: LCSC; Supplier Part Number: C2934382; Resistance: 500mR; Tolerance: 5%; Power: 1W
footprint RES SMD 2512
pins: 1, 2

## RES 2512 510k 5%
designator C?, comment 510k
510kR 5% 1W 2512 Thick Film Resistor; Manufacturer: FOJAN; Manufacturer Part Number: FRC2512J514 TS; Voltage Rating: 200V; Supplier: LCSC; Supplier Part Number: C2934124; Resistance: 510k; Tolerance: 5%; Power: 1W
footprint RES SMD 2512
pins: 1, 2

## RES 2512 510mR 1%
designator C?, comment 510mR
2W 510mR Thick Film Resistor 200ppm/â„ƒ 1% 2512 Chip Resistor - Surface Mount RoHS; Manufacturer: FOJAN; Manufacturer Part Number: FPL2512FR510TS; Supplier: LCSC; Supplier Part Number: C5126266; Resistance: 510mR; Tolerance: 1%; Power: 2W
footprint RES SMD 2512
pins: 1, 2

## RES 2512 510mR 1%_1
designator C?, comment 510mR
510mR 1% 1W 2512 Thick Film Resistor; Manufacturer: FOJAN; Manufacturer Part Number: FRL2512FR510TS; Voltage Rating: 500V; Supplier: LCSC; Supplier Part Number: C5126151; Resistance: 510mR; Tolerance: 1%; Power: 1W
footprint RES SMD 2512
pins: 1, 2

## RES 2512 510mR 5%
designator C?, comment 510mR
1W 510mR Thick Film Resistor 200ppm/â„ƒ 5% 2512 Chip Resistor - Surface Mount RoHS; Manufacturer: FOJAN; Manufacturer Part Number: FRL2512JR510TS; Supplier: LCSC; Supplier Part Number: C7467364; Resistance: 510mR; Tolerance: 5%; Power: 1W
footprint RES SMD 2512
pins: 1, 2

## RES 2512 510R 1%
designator C?, comment 510R
1W 510R 200V Thick Film Resistor 100ppm/â„ƒ 1% 2512 Chip Resistor - Surface Mount RoHS; Manufacturer: FOJAN; Manufacturer Part Number: FRC2512F5100TS; Supplier: LCSC; Supplier Part Number: C3000559; Resistance: 510R; Tolerance: 1%; Voltage Rating: 200V; Power: 1W
footprint RES SMD 2512
pins: 1, 2

## RES 2512 510R 5%
designator C?, comment 510R
510R 2W Thick Film Resistor 200ppm/â„ƒ 5% 2512 Chip Resistor - Surface Mount RoHS; Manufacturer: FOJAN; Manufacturer Part Number: FRP2512J511 TS; Supplier: LCSC; Supplier Part Number: C7468216; Resistance: 510R; Tolerance: 5%; Power: 2W
footprint RES SMD 2512
pins: 1, 2

## RES 2512 510R 5%_1
designator C?, comment 510R
1W 510R 200V Thick Film Resistor 100ppm/â„ƒ 5% 2512 Chip Resistor - Surface Mount RoHS; Manufacturer: FOJAN; Manufacturer Part Number: FRC2512J511 TS; Supplier: LCSC; Supplier Part Number: C2934121; Resistance: 510R; Tolerance: 5%; Voltage Rating: 200V; Power: 1W
footprint RES SMD 2512
pins: 1, 2

## RES 2512 511R 1%
designator C?, comment 511R
511R 1W 200V Thick Film Resistor 100ppm/â„ƒ 1% 2512 Chip Resistor - Surface Mount RoHS; Manufacturer: FOJAN; Manufacturer Part Number: FRC2512F5110TS; Supplier: LCSC; Supplier Part Number: C48533764; Resistance: 511R; Tolerance: 1%; Voltage Rating: 200V; Power: 1W
footprint RES SMD 2512
pins: 1, 2

## RES 2512 549k 1%
designator C?, comment 549k
1W 549kR 200V Thick Film Resistor 1% 2512 Chip Resistor - Surface Mount RoHS; Manufacturer: FOJAN; Manufacturer Part Number: FRC2512F5493TS; Supplier: LCSC; Supplier Part Number: C51048315; Resistance: 549k; Tolerance: 1%; Voltage Rating: 200V; Power: 1W
footprint RES SMD 2512
pins: 1, 2

## RES 2512 549R 1%
designator C?, comment 549R
549R 1% 1W 2512 Thick Film Resistor; Manufacturer: FOJAN; Manufacturer Part Number: FRC2512F5490TS; Voltage Rating: 200V; Supplier: LCSC; Supplier Part Number: C42372233; Resistance: 549R; Tolerance: 1%; Power: 1W
footprint RES SMD 2512
pins: 1, 2

## RES 2512 560k 1%
designator C?, comment 560k
1W 560kR 200V Thick Film Resistor 1% 100ppm/â„ƒ 2512 Chip Resistor - Surface Mount RoHS; Manufacturer: FOJAN; Manufacturer Part Number: FRC2512F5603TS; Supplier: LCSC; Supplier Part Number: C7467385; Resistance: 560k; Tolerance: 1%; Voltage Rating: 200V; Power: 1W
footprint RES SMD 2512
pins: 1, 2

## RES 2512 560k 5%
designator C?, comment 560k
560kR 5% 1W 2512 Thick Film Resistor; Manufacturer: FOJAN; Manufacturer Part Number: FRC2512J564 TS; Voltage Rating: 200V; Supplier: LCSC; Supplier Part Number: C5121571; Resistance: 560k; Tolerance: 5%; Power: 1W
footprint RES SMD 2512
pins: 1, 2

## RES 2512 560mR 1%
designator C?, comment 560mR
560mR 1% 2W 2512 Thick Film Resistor; Manufacturer: FOJAN; Manufacturer Part Number: FRP2512FR560TS; Voltage Rating: 200V; Supplier: LCSC; Supplier Part Number: C2999550; Resistance: 560mR; Tolerance: 1%; Power: 2W
footprint RES SMD 2512
pins: 1, 2

## RES 2512 560mR 1%_1
designator C?, comment 560mR
560mR 2W Thick Film Resistor 1% 200ppm/â„ƒ 2512 Chip Resistor - Surface Mount RoHS; Manufacturer: FOJAN; Manufacturer Part Number: FPL2512FR560TS; Supplier: LCSC; Supplier Part Number: C5713263; Resistance: 560mR; Tolerance: 1%; Power: 2W
footprint RES SMD 2512
pins: 1, 2

## RES 2512 560mR 1%_2
designator C?, comment 560mR
1W 560mR Thick Film Resistor 200ppm/â„ƒ 1% 2512 Chip Resistor - Surface Mount RoHS; Manufacturer: FOJAN; Manufacturer Part Number: FRL2512FR560TS; Supplier: LCSC; Supplier Part Number: C7467482; Resistance: 560mR; Tolerance: 1%; Power: 1W
footprint RES SMD 2512
pins: 1, 2

## RES 2512 560mR 5%
designator C?, comment 560mR
560mR 5% 1W 2512 Thick Film Resistor; Manufacturer: FOJAN; Manufacturer Part Number: FRL2512JR560TS; Voltage Rating: 500V; Supplier: LCSC; Supplier Part Number: C2960676; Resistance: 560mR; Tolerance: 5%; Power: 1W
footprint RES SMD 2512
pins: 1, 2

## RES 2512 560R 1%
designator C?, comment 560R
1W 560R 200V Thick Film Resistor 100ppm/â„ƒ 1% 2512 Chip Resistor - Surface Mount RoHS; Manufacturer: FOJAN; Manufacturer Part Number: FRC2512F5600TS; Supplier: LCSC; Supplier Part Number: C2999537; Resistance: 560R; Tolerance: 1%; Voltage Rating: 200V; Power: 1W
footprint RES SMD 2512
pins: 1, 2

## RES 2512 560R 5%
designator C?, comment 560R
1W 560R 200V Thick Film Resistor 100ppm/â„ƒ 5% 2512 Chip Resistor - Surface Mount RoHS; Manufacturer: FOJAN; Manufacturer Part Number: FRC2512J561TS; Supplier: LCSC; Supplier Part Number: C3000698; Resistance: 560R; Tolerance: 5%; Voltage Rating: 200V; Power: 1W
footprint RES SMD 2512
pins: 1, 2

## RES 2512 562k 1%
designator C?, comment 562k
562kR 1% 1W 2512 Thick Film Resistor; Manufacturer: FOJAN; Manufacturer Part Number: FRC2512F5623TS; Voltage Rating: 200V; Supplier: LCSC; Supplier Part Number: C5126065; Resistance: 562k; Tolerance: 1%; Power: 1W
footprint RES SMD 2512
pins: 1, 2

## RES 2512 590R 1%
designator C?, comment 590R
590R 1W 200V Thick Film Resistor 100ppm/â„ƒ 1% 2512 Chip Resistor - Surface Mount RoHS; Manufacturer: FOJAN; Manufacturer Part Number: FRC2512F5900TS; Supplier: LCSC; Supplier Part Number: C48533795; Resistance: 590R; Tolerance: 1%; Voltage Rating: 200V; Power: 1W
footprint RES SMD 2512
pins: 1, 2

## RES 2512 600mR 1%
designator C?, comment 600mR
1W 600mR Thick Film Resistor 200ppm/â„ƒ 1% 2512 Chip Resistor - Surface Mount RoHS; Manufacturer: FOJAN; Manufacturer Part Number: FRL2512FR600TS; Supplier: LCSC; Supplier Part Number: C7467483; Resistance: 600mR; Tolerance: 1%; Power: 1W
footprint RES SMD 2512
pins: 1, 2

## RES 2512 600mR 5%
designator C?, comment 600mR
1W 600mR Thick Film Resistor 200ppm/â„ƒ 5% 2512 Chip Resistor - Surface Mount RoHS; Manufacturer: FOJAN; Manufacturer Part Number: FRL2512JR600TS; Supplier: LCSC; Supplier Part Number: C7467376; Resistance: 600mR; Tolerance: 5%; Power: 1W
footprint RES SMD 2512
pins: 1, 2

## RES 2512 604R 1%
designator C?, comment 604R
1W 604R 200V Thick Film Resistor 100ppm/â„ƒ 1% 2512 Chip Resistor - Surface Mount RoHS; Manufacturer: FOJAN; Manufacturer Part Number: FRC2512F6040TS; Supplier: LCSC; Supplier Part Number: C48533758; Resistance: 604R; Tolerance: 1%; Voltage Rating: 200V; Power: 1W
footprint RES SMD 2512
pins: 1, 2

## RES 2512 620k 1%
designator C?, comment 620k
620kR 1% 1W 2512 Thick Film Resistor; Manufacturer: FOJAN; Manufacturer Part Number: FRC2512F6203TS; Voltage Rating: 200V; Supplier: LCSC; Supplier Part Number: C42372199; Resistance: 620k; Tolerance: 1%; Power: 1W
footprint RES SMD 2512
pins: 1, 2

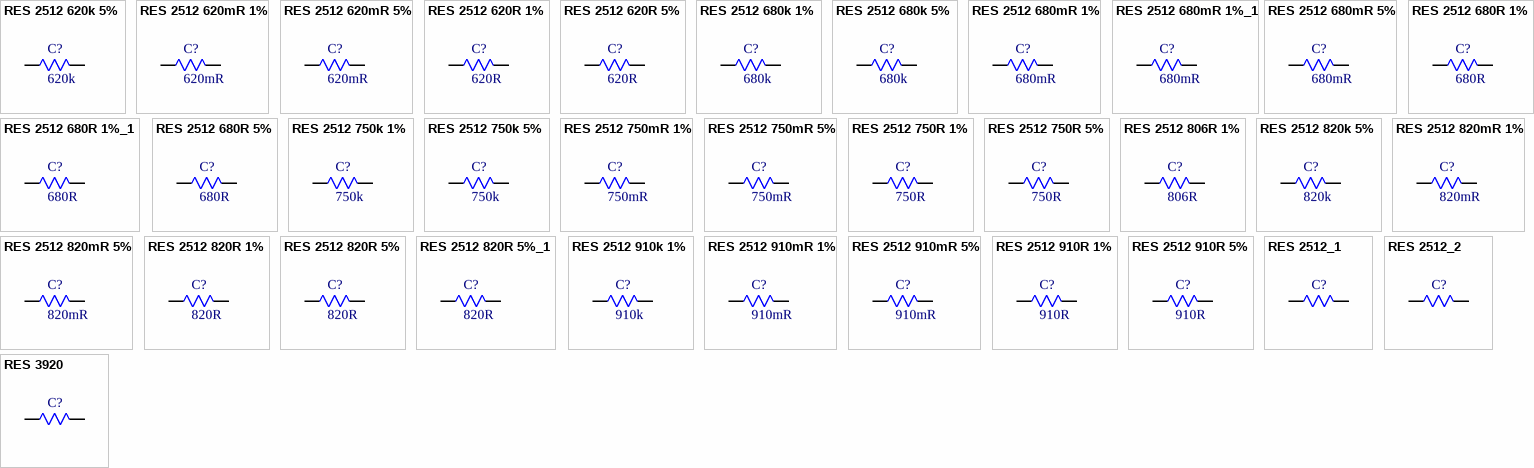
[diagram p123: symbols RES 2512 620k 5% to RES 3920]

## RES 2512 620k 5%
designator C?, comment 620k
620kR 5% 1W 2512 Thick Film Resistor; Manufacturer: FOJAN; Manufacturer Part Number: FRC2512J624 TS; Voltage Rating: 200V; Supplier: LCSC; Supplier Part Number: C42372200; Resistance: 620k; Tolerance: 5%; Power: 1W
footprint RES SMD 2512
pins: 1, 2

## RES 2512 620mR 1%
designator C?, comment 620mR
620mR 1% 1W 2512 Thick Film Resistor; Manufacturer: FOJAN; Manufacturer Part Number: FRL2512FR620TS; Voltage Rating: 500V; Supplier: LCSC; Supplier Part Number: C5126252; Resistance: 620mR; Tolerance: 1%; Power: 1W
footprint RES SMD 2512
pins: 1, 2

## RES 2512 620mR 5%
designator C?, comment 620mR
620mR 5% 1W 2512 Thick Film Resistor; Manufacturer: FOJAN; Manufacturer Part Number: FRL2512JR620TS; Voltage Rating: 500V; Supplier: LCSC; Supplier Part Number: C2934383; Resistance: 620mR; Tolerance: 5%; Power: 1W
footprint RES SMD 2512
pins: 1, 2

## RES 2512 620R 1%
designator C?, comment 620R
1W 620R 200V Thick Film Resistor 100ppm/â„ƒ 1% 2512 Chip Resistor - Surface Mount RoHS; Manufacturer: FOJAN; Manufacturer Part Number: FRC2512F6200TS; Supplier: LCSC; Supplier Part Number: C5153998; Resistance: 620R; Tolerance: 1%; Voltage Rating: 200V; Power: 1W
footprint RES SMD 2512
pins: 1, 2

## RES 2512 620R 5%
designator C?, comment 620R
1W 620R 200V Thick Film Resistor 100ppm/â„ƒ 5% 2512 Chip Resistor - Surface Mount RoHS; Manufacturer: FOJAN; Manufacturer Part Number: FRC2512J621TS; Supplier: LCSC; Supplier Part Number: C3000713; Resistance: 620R; Tolerance: 5%; Voltage Rating: 200V; Power: 1W
footprint RES SMD 2512
pins: 1, 2

## RES 2512 680k 1%
designator C?, comment 680k
1W 680kR 200V Thick Film Resistor 1% 100ppm/â„ƒ 2512 Chip Resistor - Surface Mount RoHS; Manufacturer: FOJAN; Manufacturer Part Number: FRC2512F6803TS; Supplier: LCSC; Supplier Part Number: C7467386; Resistance: 680k; Tolerance: 1%; Voltage Rating: 200V; Power: 1W
footprint RES SMD 2512
pins: 1, 2

## RES 2512 680k 5%
designator C?, comment 680k
680kR 5% 1W 2512 Thick Film Resistor; Manufacturer: FOJAN; Manufacturer Part Number: FRC2512J684 TS; Voltage Rating: 200V; Supplier: LCSC; Supplier Part Number: C2960842; Resistance: 680k; Tolerance: 5%; Power: 1W
footprint RES SMD 2512
pins: 1, 2

## RES 2512 680mR 1%
designator C?, comment 680mR
2W 680mR Thick Film Resistor 350ppm/â„ƒ 1% 2512 Chip Resistor - Surface Mount RoHS; Manufacturer: FOJAN; Manufacturer Part Number: FPL2512FR680TS; Supplier: LCSC; Supplier Part Number: C46635949; Resistance: 680mR; Tolerance: 1%; Power: 2W
footprint RES SMD 2512
pins: 1, 2

## RES 2512 680mR 1%_1
designator C?, comment 680mR
1W 680mR Thick Film Resistor 1% 200ppm/â„ƒ 2512 Chip Resistor - Surface Mount RoHS; Manufacturer: FOJAN; Manufacturer Part Number: FRL2512FR680TS; Supplier: LCSC; Supplier Part Number: C42372210; Resistance: 680mR; Tolerance: 1%; Power: 1W
footprint RES SMD 2512
pins: 1, 2

## RES 2512 680mR 5%
designator C?, comment 680mR
680mR 5% 1W 2512 Thick Film Resistor; Manufacturer: FOJAN; Manufacturer Part Number: FRL2512JR680TS; Voltage Rating: 500V; Supplier: LCSC; Supplier Part Number: C2934384; Resistance: 680mR; Tolerance: 5%; Power: 1W
footprint RES SMD 2512
pins: 1, 2

## RES 2512 680R 1%
designator C?, comment 680R
2W 680R 200V Thick Film Resistor 200ppm/â„ƒ 1% 2512 Chip Resistor - Surface Mount RoHS; Manufacturer: FOJAN; Manufacturer Part Number: FRP2512F6800TS; Supplier: LCSC; Supplier Part Number: C3013382; Resistance: 680R; Tolerance: 1%; Voltage Rating: 200V; Power: 2W
footprint RES SMD 2512
pins: 1, 2

## RES 2512 680R 1%_1
designator C?, comment 680R
1W 680R 200V Thick Film Resistor 100ppm/â„ƒ 1% 2512 Chip Resistor - Surface Mount RoHS; Manufacturer: FOJAN; Manufacturer Part Number: FRC2512F6800TS; Supplier: LCSC; Supplier Part Number: C2999607; Resistance: 680R; Tolerance: 1%; Voltage Rating: 200V; Power: 1W
footprint RES SMD 2512
pins: 1, 2

## RES 2512 680R 5%
designator C?, comment 680R
1W 680R 200V Thick Film Resistor 200ppm/â„ƒ 5% 2512 Chip Resistor - Surface Mount RoHS; Manufacturer: FOJAN; Manufacturer Part Number: FRC2512J681TS; Supplier: LCSC; Supplier Part Number: C3000664; Resistance: 680R; Tolerance: 5%; Voltage Rating: 200V; Power: 1W
footprint RES SMD 2512
pins: 1, 2

## RES 2512 750k 1%
designator C?, comment 750k
750kR 1% 1W 2512 Thick Film Resistor; Manufacturer: FOJAN; Manufacturer Part Number: FRC2512F7503TS; Voltage Rating: 200V; Supplier: LCSC; Supplier Part Number: C5154023; Resistance: 750k; Tolerance: 1%; Power: 1W
footprint RES SMD 2512
pins: 1, 2

## RES 2512 750k 5%
designator C?, comment 750k
750kR 5% 1W 2512 Thick Film Resistor; Manufacturer: FOJAN; Manufacturer Part Number: FRC2512J754 TS; Voltage Rating: 200V; Supplier: LCSC; Supplier Part Number: C2934130; Resistance: 750k; Tolerance: 5%; Power: 1W
footprint RES SMD 2512
pins: 1, 2

## RES 2512 750mR 1%
designator C?, comment 750mR
750mR 1% 1W 2512 Thick Film Resistor; Manufacturer: FOJAN; Manufacturer Part Number: FRL2512FR750TS; Voltage Rating: 500V; Supplier: LCSC; Supplier Part Number: C2960773; Resistance: 750mR; Tolerance: 1%; Power: 1W
footprint RES SMD 2512
pins: 1, 2

## RES 2512 750mR 5%
designator C?, comment 750mR
750mR 5% 1W 2512 Thick Film Resistor; Manufacturer: FOJAN; Manufacturer Part Number: FRL2512JR750TS; Voltage Rating: 500V; Supplier: LCSC; Supplier Part Number: C2934385; Resistance: 750mR; Tolerance: 5%; Power: 1W
footprint RES SMD 2512
pins: 1, 2

## RES 2512 750R 1%
designator C?, comment 750R
1W 750R 200V Thick Film Resistor 100ppm/â„ƒ 1% 2512 Chip Resistor - Surface Mount RoHS; Manufacturer: FOJAN; Manufacturer Part Number: FRC2512F7500TS; Supplier: LCSC; Supplier Part Number: C5121568; Resistance: 750R; Tolerance: 1%; Voltage Rating: 200V; Power: 1W
footprint RES SMD 2512
pins: 1, 2

## RES 2512 750R 5%
designator C?, comment 750R
1W 750R 200V Thick Film Resistor 100ppm/â„ƒ 5% 2512 Chip Resistor - Surface Mount RoHS; Manufacturer: FOJAN; Manufacturer Part Number: FRC2512J751 TS; Supplier: LCSC; Supplier Part Number: C2934128; Resistance: 750R; Tolerance: 5%; Voltage Rating: 200V; Power: 1W
footprint RES SMD 2512
pins: 1, 2

## RES 2512 806R 1%
designator C?, comment 806R
1W 806R 200V Thick Film Resistor 1% 2512 Chip Resistor - Surface Mount RoHS; Manufacturer: FOJAN; Manufacturer Part Number: FRC2512F8060TS; Supplier: LCSC; Supplier Part Number: C51048278; Resistance: 806R; Tolerance: 1%; Voltage Rating: 200V; Power: 1W
footprint RES SMD 2512
pins: 1, 2